# EAGLE library part V014642AABTR (library untitled)
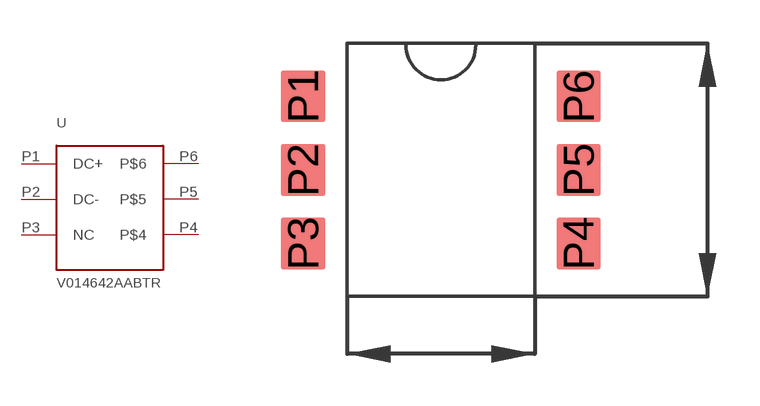
[diagram p0: symbol with the pads of SMD6; footprint SMD6]

Designator prefix -

## V014642AABTR  [SMD6]
P1  DC+
P2  DC-
P3  NC  nc
P4  P$4
P5  P$5
P6  P$6

## Footprint SMD6 (pad centres in mm)
smd 1.524 x 1.778: P1 0,5.08; P2 0,2.54; P3 0,0; P4 9.52,0; P5 9.52,2.54; P6 9.52,5.08